# Altium schematic symbol library 0805W8F1002T5E.SchLib: 1 symbol
Pins are listed as number, name and electrical type; pins without a type are passive.

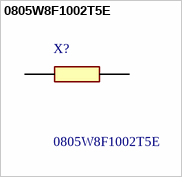
[diagram p0: symbol 0805W8F1002T5E]

## 0805W8F1002T5E
designator X?
Thick Film Resistors - SMD RMC 0805 1/8W 1% T/R-5000; Manufacturer_Name: ROYALOHM; Geometry.Height: 0.65mm; Mouser Part Number: 303-0805W8F1002T5E; Mouser Price/Stock: https://www.mouser.co.uk/ProductDetail/Royalohm/0805W8F1002T5E?qs=e8oIoAS2J1QfYPOBCQ0fIg%3D%3D; Manufacturer_Part_Number: 0805W8F1002T5E; Datasheet Link: https://www.mouser.de/datasheet/2/1365/1-3044649.pdf
footprint RESC2013X65N
pins: 1, 2